# EAGLE library part LP2951 (library IC)
LP2951 LDO Regulator, National Semiconductor, On-Semi, Micrel
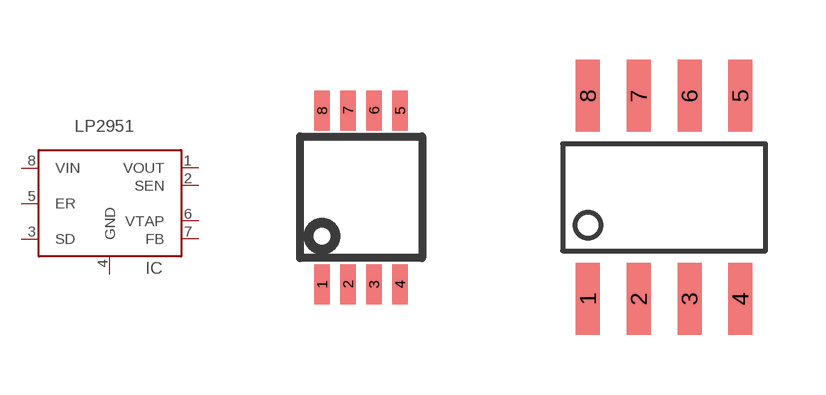
[diagram p117: symbol with the pads of MSOP-8; footprints MSOP-8, SOIC8]

Designator prefix IC

## LP2951MM  [MSOP-8]
1  VOUT  pwr
2  SEN
3  SD
4  GND  pwr
5  ER
6  VTAP
7  FB
8  VIN  pwr

## LP2951M  [SOIC8]
Pads as for MSOP-8

## Footprint MSOP-8 (pad centres in mm)
Linear Tech MSOP-8, National Semiconductor MM, On-Semi Micro8 (DM)
smd 0.38 x 1: 1 -0.975,-2.175; 2 -0.325,-2.175; 3 0.325,-2.175; 4 0.975,-2.175; 5 0.975,2.175; 6 0.325,2.175; 7 -0.325,2.175; 8 -0.975,2.175

## Footprint SOIC8 (pad centres in mm)
8 pin SOIC 150-mil package
smd 0.6 x 1.8: 1 -1.905,-2.54; 2 -0.635,-2.54; 3 0.635,-2.54; 4 1.905,-2.54; 5 1.905,2.54; 6 0.635,2.54; 7 -0.635,2.54; 8 -1.905,2.54